# Altium schematic symbol library 接插件.SchLib: 8 symbols
Pins are listed as number, name and electrical type; pins without a type are passive.

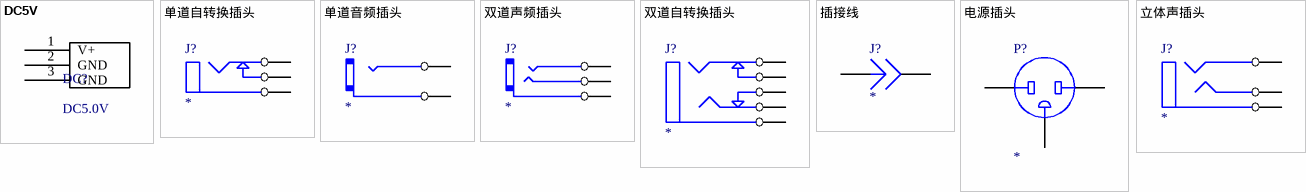
[diagram p0: symbols DC5V to 立体声插头]

## DC5V
designator DC?, comment DC5.0V
footprint DC5V (DC 5.0V)
pins: 1 V+, 2 GND, 3 GND

## 单道自转换插头
designator J?
pins: 1 A, 2 B, 3 C

## 单道音频插头
designator J?
pins: 1 A, 2 B

## 双道声频插头
designator J?
pins: 1 A, 2 B, 3 C

## 双道自转换插头
designator J?
pins: 1 A, 2 B, 3 C, 4 D, 5 E

## 插接线
designator J?
pins: 1, 2

## 电源插头
designator P?
pins: 1 A, 2 B, 3 GND

## 立体声插头
designator J?
pins: 1 A, 2 B, 3 C